# EAGLE library part METROLOGY_MODULE (library SquantorPCBOutline)
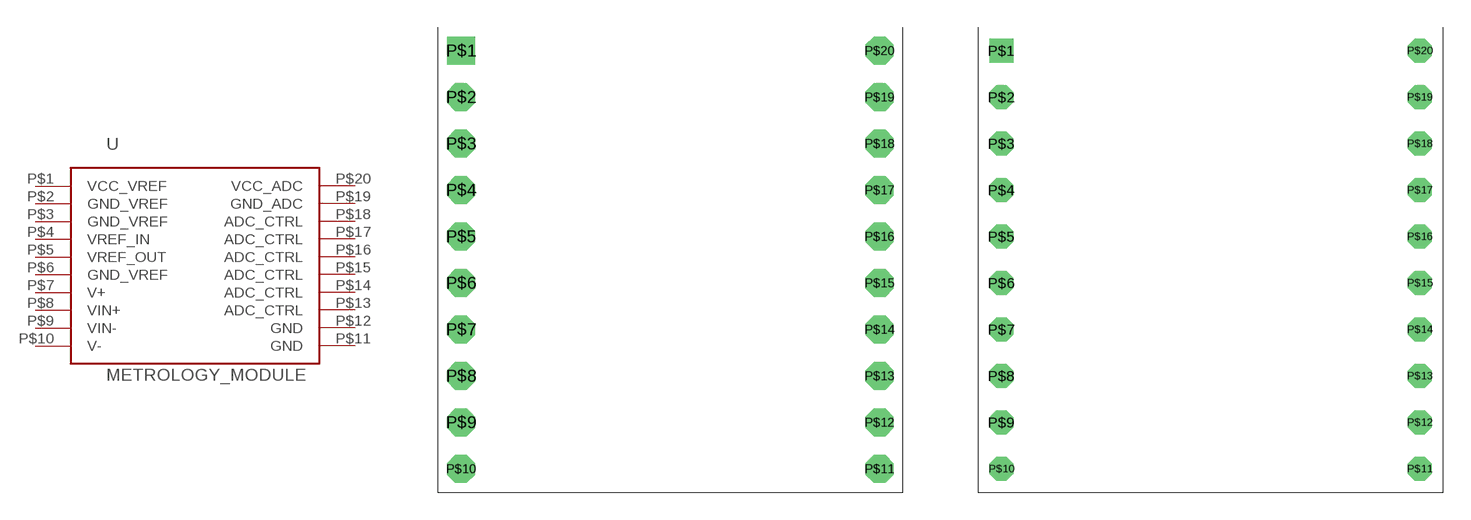
[diagram p0: symbol with the pads of METROLOGY_MODULE_1MM_HOLE; footprints METROLOGY_MODULE_1MM_HOLE, METROLOGY_MODULE_.8MM_HOLE]

Designator prefix -

## METROLOGY_MODULE1MM  [METROLOGY_MODULE_1MM_HOLE]
P$1  VCC_VREF
P$2  GND_VREF
P$3  GND_VREF
P$4  VREF_IN
P$5  VREF_OUT
P$6  GND_VREF
P$7  V+
P$8  VIN+
P$9  VIN-
P$10  V-
P$11  GND
P$12  GND
P$13  ADC_CTRL
P$14  ADC_CTRL
P$15  ADC_CTRL
P$16  ADC_CTRL
P$17  ADC_CTRL
P$18  ADC_CTRL
P$19  GND_ADC
P$20  VCC_ADC

## METROLOGY_MODULE0.8MM  [METROLOGY_MODULE_.8MM_HOLE]
Pads as for METROLOGY_MODULE_1MM_HOLE

## METROLOGY_MODULE1.5MM  [METROLOGY_MODULE_1.5MM_HOLE]
Pads as for METROLOGY_MODULE_1MM_HOLE

## Footprint METROLOGY_MODULE_1MM_HOLE (pad centres in mm)
drill 1 square: P$1 -11.43,11.43
drill 1 octagon: P$2 -11.43,8.89; P$3 -11.43,6.35; P$4 -11.43,3.81; P$5 -11.43,1.27; P$6 -11.43,-1.27; P$7 -11.43,-3.81; P$8 -11.43,-6.35; P$9 -11.43,-8.89; P$10 -11.43,-11.43; P$11 11.43,-11.43; P$12 11.43,-8.89; P$13 11.43,-6.35; P$14 11.43,-3.81; P$15 11.43,-1.27; P$16 11.43,1.27; P$17 11.43,3.81; P$18 11.43,6.35; P$19 11.43,8.89; P$20 11.43,11.43

## Footprint METROLOGY_MODULE_.8MM_HOLE (pad centres in mm)
drill 0.8 square: P$1 -11.43,11.43
drill 0.8 octagon: P$2 -11.43,8.89; P$3 -11.43,6.35; P$4 -11.43,3.81; P$5 -11.43,1.27; P$6 -11.43,-1.27; P$7 -11.43,-3.81; P$8 -11.43,-6.35; P$9 -11.43,-8.89; P$10 -11.43,-11.43; P$11 11.43,-11.43; P$12 11.43,-8.89; P$13 11.43,-6.35; P$14 11.43,-3.81; P$15 11.43,-1.27; P$16 11.43,1.27; P$17 11.43,3.81; P$18 11.43,6.35; P$19 11.43,8.89; P$20 11.43,11.43

## Footprint METROLOGY_MODULE_1.5MM_HOLE (pad centres in mm)
drill 1.5 pad 1.8 square: P$1 -11.43,11.43
drill 1.5 pad 1.8 octagon: P$2 -11.43,8.89; P$3 -11.43,6.35; P$4 -11.43,3.81; P$5 -11.43,1.27; P$6 -11.43,-1.27; P$7 -11.43,-3.81; P$8 -11.43,-6.35; P$9 -11.43,-8.89; P$10 -11.43,-11.43; P$11 11.43,-11.43; P$12 11.43,-8.89; P$13 11.43,-6.35; P$14 11.43,-3.81; P$15 11.43,-1.27; P$16 11.43,1.27; P$17 11.43,3.81; P$18 11.43,6.35; P$19 11.43,8.89; P$20 11.43,11.43